# Altium footprint library DCAR-FUSE-HOLDER.pcblib: 1 footprints
Each footprint in its own frame and in the unit in brackets; x right, y up, seen from the top. Pads: shape width x height; smd on the part's side, far side on the other; paste and mask are expansions set on the pad; w line width, h text height; cw(c..) or ccw(c..) is an arc to the next point about the centre after c.
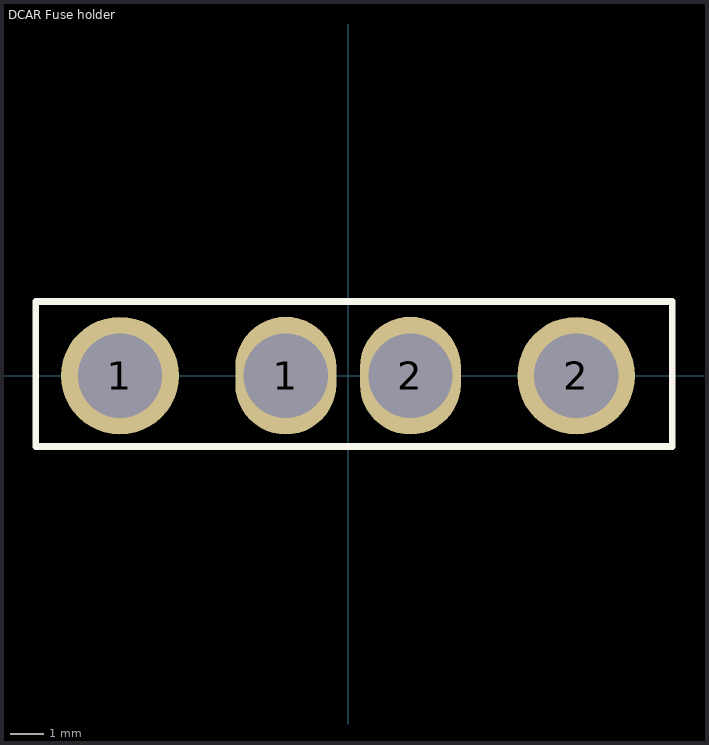
[diagram p0: the footprint, top view; thin cyan lines are the x and y axes]

## DCAR Fuse holder [mm]
height 8
pads (4):
  round 3.5 hole 2.5: 1(-6.775,0) 2(6.775,0)
  oval 3x3.5 hole 2.5: 1(-1.85,0) 2(1.85,0)
Top Overlay:
  lines w0.2: -9.275,-2.1 9.625,-2.1 9.625,2.2 -9.275,2.2 -9.275,-2.1
3D body: height 1.2, standoff 0, extent -9.275,-2.1 9.625,2.2
3D body: height 7.9, standoff 1.2, extent -7.9,-1.275 -0.575,1.275
3D body: height 7.9, standoff 1.2, extent 0.725,-1.275 8.05,1.275
3D body: height 14.9, standoff 7.9, extent -8.875,-1.75 9.275,1.875